# Altium footprint library PcbLib1.PcbLib: 4 footprints
Each footprint in its own frame and in the unit in brackets; x right, y up, seen from the top. Pads: shape width x height; smd on the part's side, far side on the other; paste and mask are expansions set on the pad; w line width, h text height; cw(c..) or ccw(c..) is an arc to the next point about the centre after c.
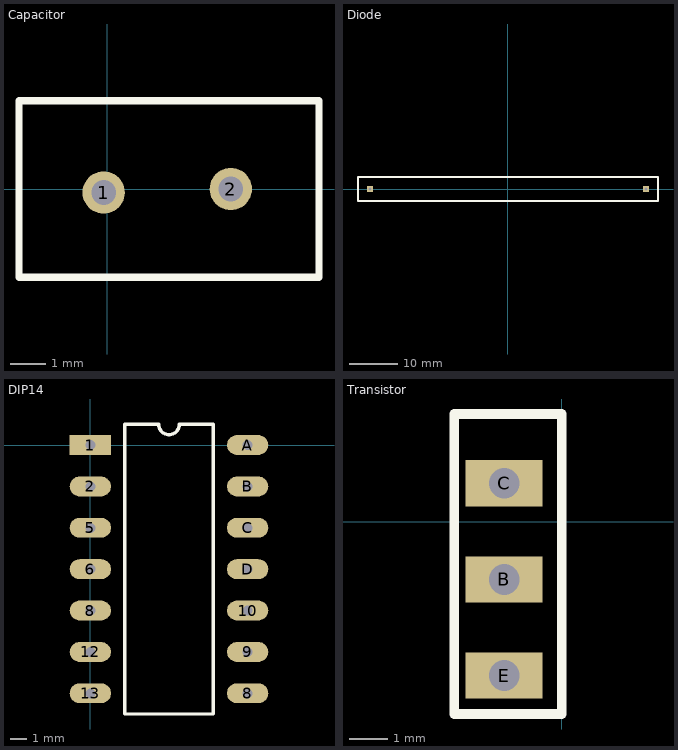
[diagram p0: the footprints below, top view; thin cyan lines are the x and y axes]

## Capacitor [mm]
pads (2):
  round 1.2 hole 0.7: 1(-0.1,-0.1) 2(3.5,0)
Top Overlay:
  lines w0.2: -2.5,-2.5 0,-2.5 3.5,-2.5 6,-2.5 6,2.5 3.5,2.5 0,2.5 -2.5,2.5 -2.5,-2.5
3D body "Capacitor.stp": height 10.5, standoff -17, extent -1.931,-3.37 4.569,3.13

## Diode [mm]
pads (2):
  rect 1.2x1.2 hole 0.7: A(-28.75,0) K(28.75,0)
Top Overlay:
  lines w0.5: -31.25,-2.5 -31.25,0 -31.25,2.5 31.25,2.5 31.25,-2.5 -31.25,-2.5
3D body "diode.stp": height 7.76, standoff -5.99, extent -29,-1.743 29,1.743

## DIP14 [mm]
pads (14):
  rect 2.5x1.2 hole 0.6: 1(0,0)
  oval 2.5x1.2 hole 0.6: 2(0,-2.5) 5(0,-5) 6(0,-7.5) 8(0,-10) 8(9.5,-15) 9(9.5,-12.5) 10(9.5,-10) 12(0,-12.5) 13(0,-15) A(9.5,0) B(9.5,-2.5) C(9.5,-5) D(9.5,-7.5)
Top Overlay:
  lines w0.2: 2.085,-16.25 2.085,1.25 4.125,1.25 ccw(c4.75,1.25) 5.375,1.25 7.415,1.25 7.415,-16.25 2.085,-16.25
3D body "dip7.stp": height 6.71, standoff -1.99, extent -0.25,-17.5 9.85,2

## Transistor [mm]
height 27.5
pads (3):
  rect 2x1.2 hole 0.8: B(-1.5,-1.5) C(-1.5,1) E(-1.5,-4)
Top Overlay:
  lines w0.254: 0,2.5 0,-5 ; 0,-5 -2.8,-5 -2.8,2.8 0,2.8 0,-5
3D body "Transistor.stp": height 12.52, standoff -14.99, extent -2.9,-5.61 -0.1,2.2